# Altium schematic symbol library Diodes.SchLib: 2 symbols
Pins are listed as number, name and electrical type; pins without a type are passive.

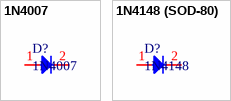
[diagram p0: symbols 1N4007 to 1N4148 (SOD-80)]

## 1N4007
designator D?
footprint DO-41
pins: 1, 2

## 1N4148 (SOD-80)
designator D?, comment 1N4148
footprint SOD-80
pins: 1, 2